# Altium schematic symbol library B8B-XH-TW .SchLib: 1 symbol
Pins are listed as number, name and electrical type; pins without a type are passive.

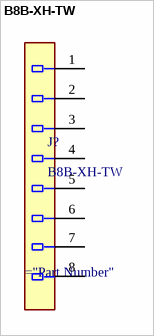
[diagram p0: symbol B8B-XH-TW]

## B8B-XH-TW
designator J?
footprint B8B-XH-TW
pins: 1, 2, 3, 4, 5, 6, 7, 8